# Altium schematic symbol library Pads.SchLib: 1 symbol
Pins are listed as number, name and electrical type; pins without a type are passive.

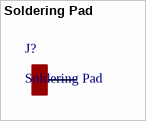
[diagram p0: symbol Soldering Pad]

## Soldering Pad
designator J?  (no BOM)
footprint 14AWG_PAD
pins: 1